# EAGLE library part TPS6734 (library my_parts)
12V 120mA IC Boost circuit
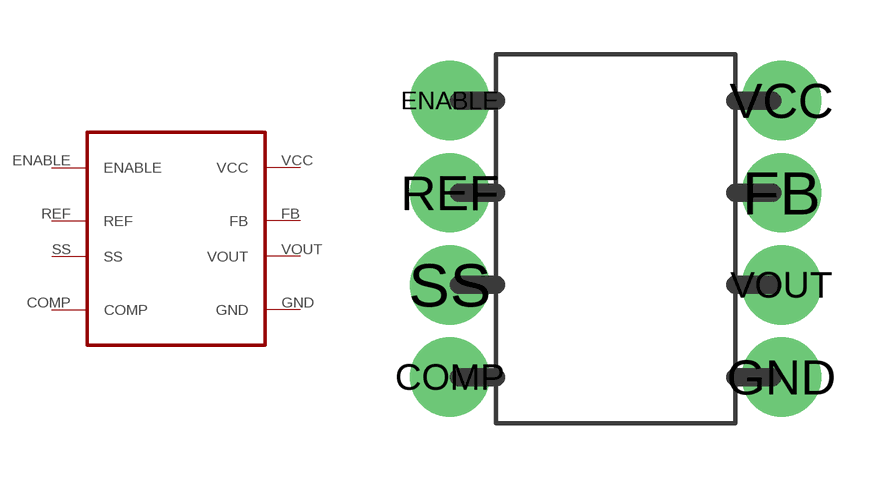
[diagram p0: symbol with the pads of DIP-8; footprint DIP-8]

Designator prefix -

## TPS6734  [DIP-8]
COMP  COMP
ENABLE  ENABLE
FB  FB
GND  GND
REF  REF
SS  SS
VCC  VCC
VOUT  VOUT

## Footprint DIP-8 (pad centres in mm)
8-pin DIP package
drill 0.8 pad 2.184: COMP -4.572,-3.81; ENABLE -4.572,3.81; FB 4.572,1.27; GND 4.572,-3.81; REF -4.572,1.27; SS -4.572,-1.27; VCC 4.572,3.81; VOUT 4.572,-1.27